# EAGLE library part BISS0001 (library pir)
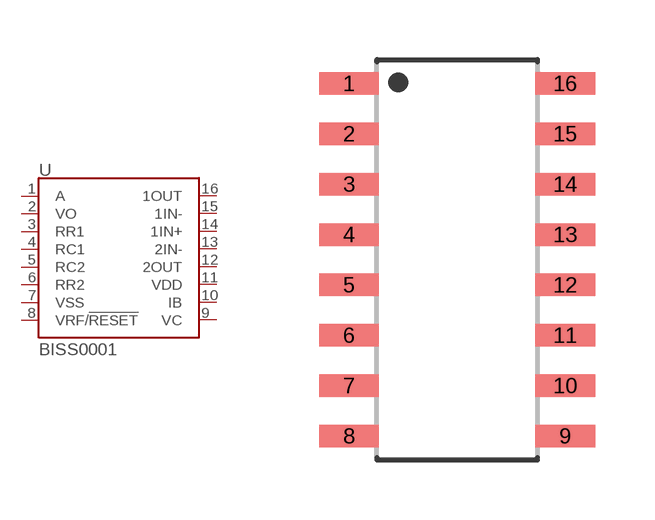
[diagram p0: symbol with the pads of SOP16; footprint SOP16]

Designator prefix -

## BISS0001SOP16  [SOP16]
1  A
2  VO
3  RR1
4  RC1
5  RC2
6  RR2
7  VSS
8  VRF/!RESET!
9  VC
10  IB
11  VDD
12  2OUT
13  2IN-
14  1IN+
15  1IN-
16  1OUT

## Footprint SOP16 (pad centres in mm)
16-SOIC, 1.27 mm pitch, 6.04 mm span, 10.00 X 3.94 X 1.73 mm body 16-pin SOIC package with 1.27 mm pitch, 6.04 mm span with body size 10.00 X 3.94 X 1.73 mm
smd 1.509 x 0.566: 1 -2.723,4.445; 2 -2.723,3.175; 3 -2.723,1.905; 4 -2.723,0.635; 5 -2.723,-0.635; 6 -2.723,-1.905; 7 -2.723,-3.175; 8 -2.723,-4.445; 9 2.723,-4.445; 10 2.723,-3.175; 11 2.723,-1.905; 12 2.723,-0.635; 13 2.723,0.635; 14 2.723,1.905; 15 2.723,3.175; 16 2.723,4.445